# EAGLE library part MMC_CONNECTOR (library Custom)
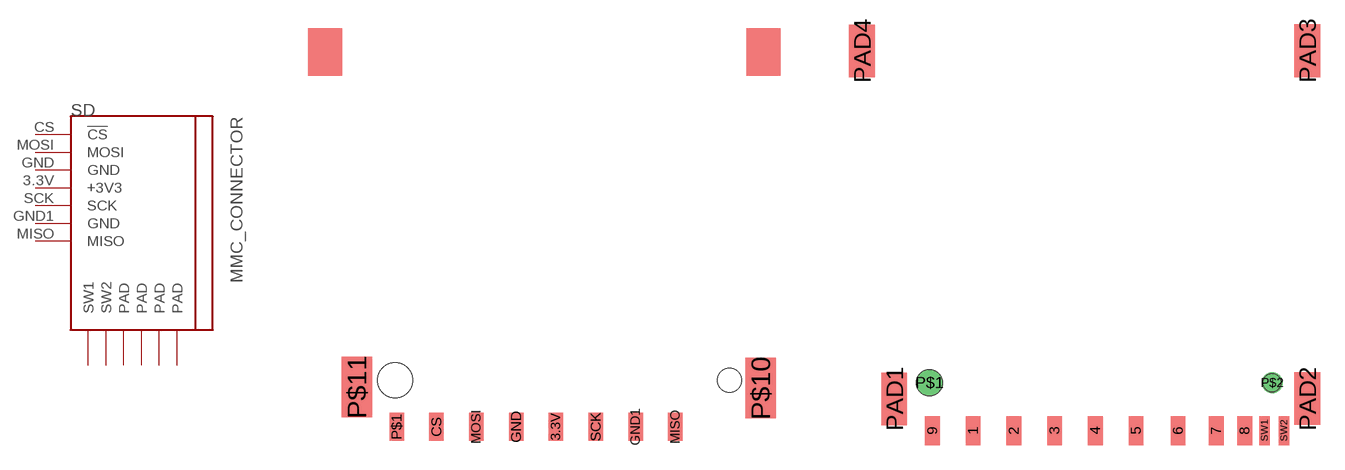
[diagram p51: symbol with the pads of MMC; footprints MMC, MMC_2]

Designator prefix SD

## MMC_CONNECTOR  [MMC]
3.3V  +3V3  pwr
CS  !CS  in
GND  GND  pwr
GND1  GND  pwr
MISO  MISO  out
MOSI  MOSI  in
SCK  SCK  in

## MMC_CONNECTOR-V2  [MMC_2]
1  !CS  in
2  MOSI  in
3  GND  pwr
4  +3V3  pwr
5  SCK  in
6  GND  pwr
7  MISO  out
PAD1  PAD
PAD2  PAD
PAD3  PAD
PAD4  PAD
SW1  SW1
SW2  SW2

## Footprint MMC (pad centres in mm)
smd 0.914 x 1.778: 3.3V 2,-25; CS -5.5,-25; GND -0.5,-25; GND1 7,-25; MISO 9.5,-25; MOSI -3,-25; P$1 -8,-25; SCK 4.5,-25
smd 1.93 x 3.81: P$10 14.85,-22.57; P$11 -10.5,-22.5
hole 2.2 at -8.109,-22.071
hole 1.5 at 12.889,-22.071

## Footprint MMC_2 (pad centres in mm)
smd 0.914 x 1.778: 1 -5.976,-25; 2 -3.476,-25; 3 -0.976,-25; 4 1.524,-25; 5 4.024,-25; 6 6.603,-25; 7 8.944,-25; 8 10.691,-25; 9 -8.476,-25
drill 0.787 pad 1.575: P$1 -8.652,-22.066
drill 0.787 pad 1.016: P$2 12.383,-22.066
smd 1.575 x 3.226: PAD1 -10.818,-23.056; PAD2 14.533,-23.046; PAD3 14.533,-1.694; PAD4 -12.802,-1.704
smd 0.635 x 1.778: SW1 11.906,-25.003; SW2 13.097,-25.003
hole 1.6 at -8.665,-22.071
hole 1.092 at 12.373,-22.071